# EAGLE library part RN_SEP (library Scott-Electrical)
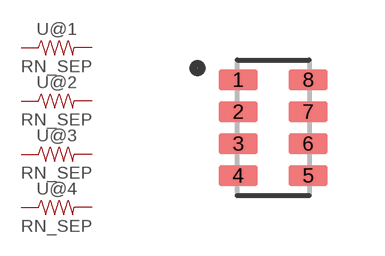
[diagram p1: symbol with the pads of 0603X4; footprint 0603X4]

Designator prefix -; gates @1=RESISTOR @2=RESISTOR @3=RESISTOR @4=RESISTOR

## RN_SEP  [0603X4]
1  @1:1  pas
2  @2:1  pas
3  @3:1  pas
4  @4:1  pas
5  @4:2  pas
6  @3:2  pas
7  @2:2  pas
8  @1:2  pas

## RN_SEP_REVERSE  [0603X4]
1  @1:2  pas
2  @2:2  pas
3  @3:2  pas
4  @4:2  pas
5  @4:1  pas
6  @3:1  pas
7  @2:1  pas
8  @1:1  pas

## Footprint 0603X4 (pad centres in mm)
smd 0.97 x 0.53: 1 -0.875,1.2; 2 -0.875,0.4; 3 -0.875,-0.4; 4 -0.875,-1.2; 5 0.875,-1.2; 6 0.875,-0.4; 7 0.875,0.4; 8 0.875,1.2